# Altium footprint library ASFL136864MHZEKT.PcbLib: 1 footprints
Each footprint in its own frame and in the unit in brackets; x right, y up, seen from the top. Pads: shape width x height; smd on the part's side, far side on the other; paste and mask are expansions set on the pad; w line width, h text height; cw(c..) or ccw(c..) is an arc to the next point about the centre after c.
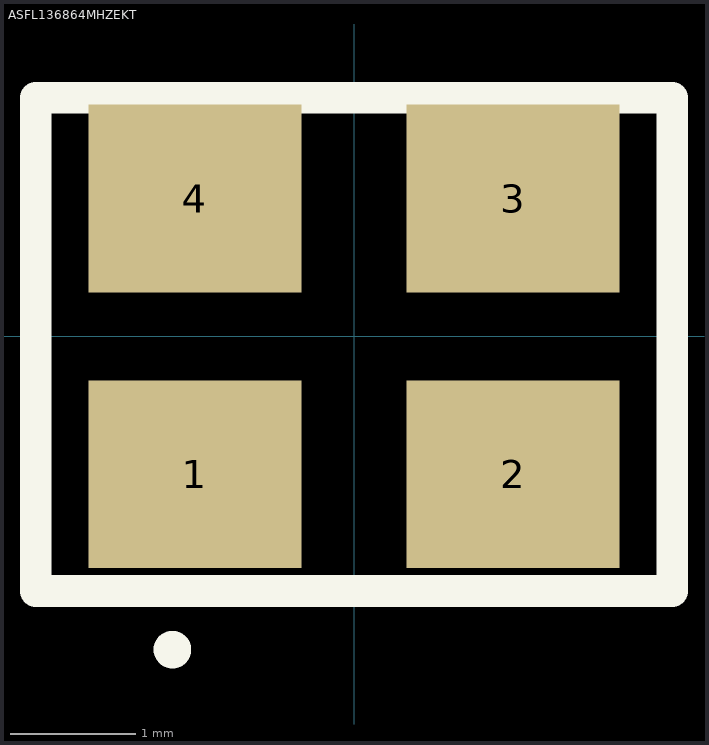
[diagram p0: the footprint, top view; thin cyan lines are the x and y axes]

## ASFL136864MHZEKT [mm]
pads (4):
  rect 1.7x1.5 smd: 1(-1.27,-1.1) 2(1.27,-1.1) 3(1.27,1.1) 4(-1.27,1.1)
Top Overlay:
  lines w0.2: -1.5,-2.5 ccw(c-1.45,-2.5) -1.4,-2.5 ; -1.5,-2.5 cw(c-1.45,-2.5) -1.4,-2.5 ; -1.5,-2.5 ccw(c-1.45,-2.5) -1.4,-2.5
  lines w0.254: -2.54,-2.032 -2.54,1.905 2.54,1.905 2.54,-2.032 -2.54,-2.032
3D body "ASFL1-3.6864MHZ-EK-T.stp": height 1.4, standoff 0, extent -2.5,-1.7 2.5,1.7